# Altium schematic symbol library mechanical_mounting.SchLib: 1 symbol
Pins are listed as number, name and electrical type; pins without a type are passive.

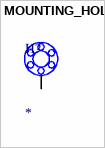
[diagram p0: symbol MOUNTING_HOLE]

## MOUNTING_HOLE
designator H?  (no BOM)
mounting hole for a screw; Value: *
footprint MOUNTING_HOLE_M3 (mounting hole for an M3 screw)
pins: 1, 2, 3, 4, 5, 6, 7